# Altium footprint library SJR-BTM525.PcbLib: 1 footprints
Each footprint in its own frame and in the unit in brackets; x right, y up, seen from the top. Pads: shape width x height; smd on the part's side, far side on the other; paste and mask are expansions set on the pad; w line width, h text height; cw(c..) or ccw(c..) is an arc to the next point about the centre after c.
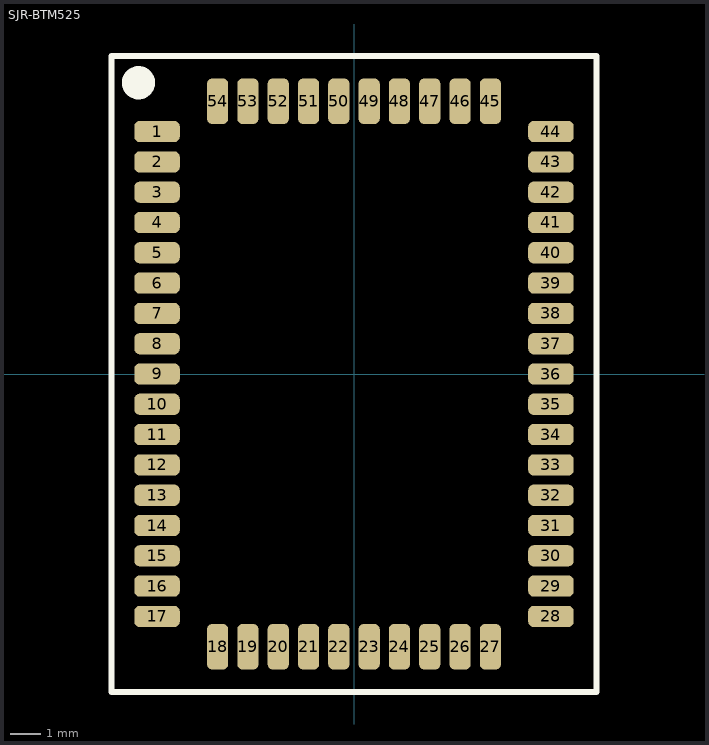
[diagram p0: the footprint, top view; thin cyan lines are the x and y axes]

## SJR-BTM525 [mm]
height 2.8
pads (54):
  rrect50% 1.5x0.7 smd: 1(-6.5,8) 2(-6.5,7) 3(-6.5,6) 4(-6.5,5) 5(-6.5,4) 6(-6.5,3) 7(-6.5,2) 8(-6.5,1) 9(-6.5,0) 10(-6.5,-1) 11(-6.5,-2) 12(-6.5,-3) 13(-6.5,-4) 14(-6.5,-5) 15(-6.5,-6) 16(-6.5,-7) 17(-6.5,-8) 28(6.5,-8) 29(6.5,-7) 30(6.5,-6) 31(6.5,-5) 32(6.5,-4) 33(6.5,-3) 34(6.5,-2) 35(6.5,-1) 36(6.5,0) 37(6.5,1) 38(6.5,2) 39(6.5,3) 40(6.5,4) 41(6.5,5) 42(6.5,6) 43(6.5,7) 44(6.5,8)
  rrect50% 0.7x1.5 smd: 18(-4.5,-9) 19(-3.5,-9) 20(-2.5,-9) 21(-1.5,-9) 22(-0.5,-9) 23(0.5,-9) 24(1.5,-9) 25(2.5,-9) 26(3.5,-9) 27(4.5,-9) 45(4.5,9) 46(3.5,9) 47(2.5,9) 48(1.5,9) 49(0.5,9) 50(-0.5,9) 51(-1.5,9) 52(-2.5,9) 53(-3.5,9) 54(-4.5,9)
Top Overlay:
  circle w0.6: c-7.11,9.612 r0.248
  lines w0.2: -8,-10.5 8,-10.5 8,10.5 -8,10.5 -8,-10.5
3D body: height 3, standoff 0, extent -6.5,-9 6.5,9